# EAGLE library part ATMEGA48/88/168-PU (library atmega8)
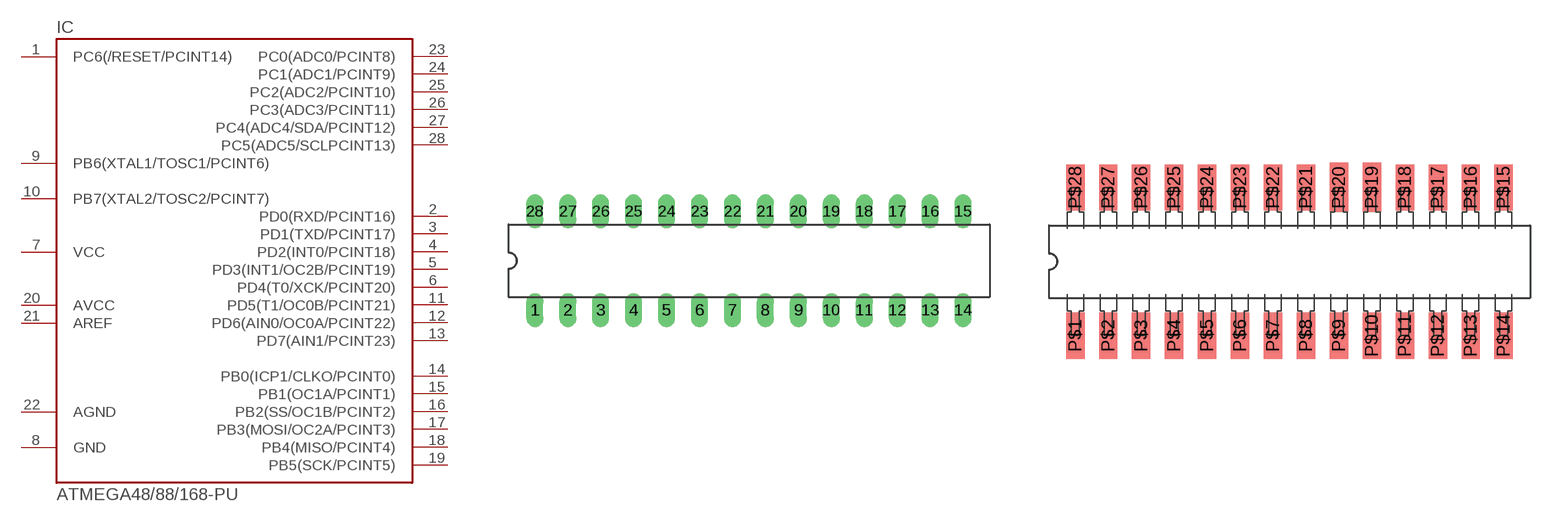
[diagram p0: symbol with the pads of DIL28-3; footprints DIL28-3, DIL28-SMD]

Designator prefix IC

## ATMEGA48/88/168-PUNORMAL  [DIL28-3]
1  PC6(/RESET/PCINT14)
2  PD0(RXD/PCINT16)
3  PD1(TXD/PCINT17)
4  PD2(INT0/PCINT18)
5  PD3(INT1/OC2B/PCINT19)
6  PD4(T0/XCK/PCINT20)
7  VCC  pwr
8  GND  pwr
9  PB6(XTAL1/TOSC1/PCINT6)
10  PB7(XTAL2/TOSC2/PCINT7)
11  PD5(T1/OC0B/PCINT21)
12  PD6(AIN0/OC0A/PCINT22)
13  PD7(AIN1/PCINT23)
14  PB0(ICP1/CLKO/PCINT0)
15  PB1(OC1A/PCINT1)
16  PB2(SS/OC1B/PCINT2)
17  PB3(MOSI/OC2A/PCINT3)
18  PB4(MISO/PCINT4)
19  PB5(SCK/PCINT5)
20  AVCC  pas
21  AREF  pas
22  AGND  pwr
23  PC0(ADC0/PCINT8)
24  PC1(ADC1/PCINT9)
25  PC2(ADC2/PCINT10)
26  PC3(ADC3/PCINT11)
27  PC4(ADC4/SDA/PCINT12)
28  PC5(ADC5/SCLPCINT13)

## ATMEGA48/88/168-PUSMD  [DIL28-SMD]
P$1  PC6(/RESET/PCINT14)
P$2  PD0(RXD/PCINT16)
P$3  PD1(TXD/PCINT17)
P$4  PD2(INT0/PCINT18)
P$5  PD3(INT1/OC2B/PCINT19)
P$6  PD4(T0/XCK/PCINT20)
P$7  VCC  pwr
P$8  GND  pwr
P$9  PB6(XTAL1/TOSC1/PCINT6)
P$10  PB7(XTAL2/TOSC2/PCINT7)
P$11  PD5(T1/OC0B/PCINT21)
P$12  PD6(AIN0/OC0A/PCINT22)
P$13  PD7(AIN1/PCINT23)
P$14  PB0(ICP1/CLKO/PCINT0)
P$15  PB1(OC1A/PCINT1)
P$16  PB2(SS/OC1B/PCINT2)
P$17  PB3(MOSI/OC2A/PCINT3)
P$18  PB4(MISO/PCINT4)
P$19  PB5(SCK/PCINT5)
P$20  AVCC  pas
P$21  AREF  pas
P$22  AGND  pwr
P$23  PC0(ADC0/PCINT8)
P$24  PC1(ADC1/PCINT9)
P$25  PC2(ADC2/PCINT10)
P$26  PC3(ADC3/PCINT11)
P$27  PC4(ADC4/SDA/PCINT12)
P$28  PC5(ADC5/SCLPCINT13)

## Footprint DIL28-3 (pad centres in mm)
Dual In Line 0.3 inch
drill 0.813 long: 1 -16.51,-3.81; 2 -13.97,-3.81; 3 -11.43,-3.81; 4 -8.89,-3.81; 5 -6.35,-3.81; 6 -3.81,-3.81; 7 -1.27,-3.81; 8 1.27,-3.81; 9 3.81,-3.81; 10 6.35,-3.81; 11 8.89,-3.81; 12 11.43,-3.81; 13 13.97,-3.81; 14 16.51,-3.81; 15 16.51,3.81; 16 13.97,3.81; 17 11.43,3.81; 18 8.89,3.81; 19 6.35,3.81; 20 3.81,3.81; 21 1.27,3.81; 22 -1.27,3.81; 23 -3.81,3.81; 24 -6.35,3.81; 25 -8.89,3.81; 26 -11.43,3.81; 27 -13.97,3.81; 28 -16.51,3.81

## Footprint DIL28-SMD (pad centres in mm)
smd 1.422 x 3.556: P$1 -16.51,-6.35; P$2 -13.97,-6.35; P$3 -11.43,-6.35; P$4 -8.89,-6.35; P$5 -6.35,-6.35; P$6 -3.81,-6.35; P$7 -1.27,-6.35; P$8 1.27,-6.35; P$9 3.81,-6.35; P$10 6.35,-6.35; P$11 8.89,-6.35; P$12 11.43,-6.35; P$13 13.97,-6.35; P$14 16.51,-6.35; P$15 16.51,5.08; P$16 13.97,5.08; P$17 11.43,5.08; P$18 8.89,5.08; P$21 1.27,5.08; P$22 -1.27,5.08; P$23 -3.81,5.08; P$24 -6.35,5.08; P$25 -8.89,5.08; P$26 -11.43,5.08; P$27 -13.97,5.08; P$28 -16.51,5.08
smd 1.422 x 3.81: P$19 6.35,5.08; P$20 3.81,5.08